# Altium schematic symbol library WE-SMGS.SchLib: 8 symbols
Pins are listed as number, name and electrical type; pins without a type are passive.

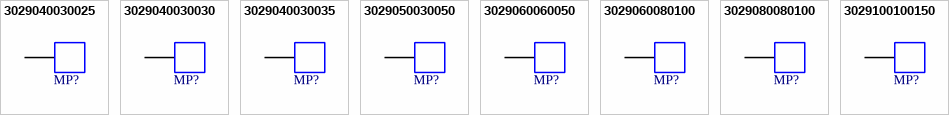
[diagram p0: symbols 3029040030025 to 3029100100150]

## 3029040030025
designator MP?  (value not drawn)
WE-SMGS Surface Mount Solderable Gasket, 4x3x2.5mm, compression height 1.875-2mm; Manufacturer: Wurth Elektronik; Recommended Compression Min: 1.875mm; Recommended Compression Max: 2mm; Shielding Effectiveness @100MHz: 70db; Surface Resistance: 0.1Ω/square; ComponentLink1Description: Website Link; ComponentLink1URL: https://www.we-online.com/redexpert/article/3029040030025?ad; ComponentLink2Description: Datasheet Link; ComponentLink2URL: https://www.we-online.com/redexpert/spec/3029040030025?ad; Manufacturer Part Number: 3029040030025; Category: EMC Shielding; Match Code: WE-SMGS; Mount: Surface Mount; Operating Temperature Max: 90°C; Operating Temperature Min: -20°C; Packaging: Tape and Reel; Length: 4mm; Width: 3mm; Height: 2.5mm
footprint 3029040030025
pins: 1

## 3029040030030
designator MP?  (value not drawn)
WE-SMGS Surface Mount Solderable Gasket, 4x3x3mm, compression height 2.25-2.4mm; Manufacturer: Wurth Elektronik; Recommended Compression Min: 2.25mm; Recommended Compression Max: 2.4mm; Shielding Effectiveness @100MHz: 70db; Surface Resistance: 0.1Ω/square; ComponentLink1Description: Website Link; ComponentLink1URL: https://www.we-online.com/redexpert/article/3029040030030?ad; ComponentLink2Description: Datasheet Link; ComponentLink2URL: https://www.we-online.com/redexpert/spec/3029040030030?ad; Manufacturer Part Number: 3029040030030; Category: EMC Shielding; Match Code: WE-SMGS; Mount: Surface Mount; Operating Temperature Max: 90°C; Operating Temperature Min: -20°C; Packaging: Tape and Reel; Length: 4mm; Width: 3mm; Height: 3mm
footprint 3029040030030
pins: 1

## 3029040030035
designator MP?  (value not drawn)
WE-SMGS Surface Mount Solderable Gasket, 4x3x3.5mm, compression height 2.625-2.8mm; Manufacturer: Wurth Elektronik; Recommended Compression Min: 2.625mm; Recommended Compression Max: 2.8mm; Shielding Effectiveness @100MHz: 70db; Surface Resistance: 0.1Ω/square; ComponentLink1Description: Website Link; ComponentLink1URL: https://www.we-online.com/redexpert/article/3029040030035?ad; ComponentLink2Description: Datasheet Link; ComponentLink2URL: https://www.we-online.com/redexpert/spec/3029040030035?ad; Manufacturer Part Number: 3029040030035; Category: EMC Shielding; Match Code: WE-SMGS; Mount: Surface Mount; Operating Temperature Max: 90°C; Operating Temperature Min: -20°C; Packaging: Tape and Reel; Length: 4mm; Width: 3mm; Height: 3.5mm
footprint 3029040030035
pins: 1

## 3029050030050
designator MP?  (value not drawn)
WE-SMGS Surface Mount Solderable Gasket, 5x3x5mm, compression height 3.75-4mm; Manufacturer: Wurth Elektronik; Recommended Compression Min: 3.75mm; Recommended Compression Max: 4mm; Shielding Effectiveness @100MHz: 70db; Surface Resistance: 0.1Ω/square; ComponentLink1Description: Website Link; ComponentLink1URL: https://www.we-online.com/redexpert/article/3029050030050?ad; ComponentLink2Description: Datasheet Link; ComponentLink2URL: https://www.we-online.com/redexpert/spec/3029050030050?ad; Manufacturer Part Number: 3029050030050; Category: EMC Shielding; Match Code: WE-SMGS; Mount: Surface Mount; Operating Temperature Max: 90°C; Operating Temperature Min: -20°C; Packaging: Tape and Reel; Length: 5mm; Width: 3mm; Height: 5mm
footprint 3029050030050
pins: 1

## 3029060060050
designator MP?  (value not drawn)
WE-SMGS Surface Mount Solderable Gasket, 6x6x5mm, compression height 3.75-4mm; Manufacturer: Wurth Elektronik; Recommended Compression Min: 3.75mm; Recommended Compression Max: 4mm; Shielding Effectiveness @100MHz: 70db; Surface Resistance: 0.1Ω/square; ComponentLink1Description: Website Link; ComponentLink1URL: https://www.we-online.com/redexpert/article/3029060060050?ad; ComponentLink2Description: Datasheet Link; ComponentLink2URL: https://www.we-online.com/redexpert/spec/3029060060050?ad; Manufacturer Part Number: 3029060060050; Category: EMC Shielding; Match Code: WE-SMGS; Mount: Surface Mount; Operating Temperature Max: 90°C; Operating Temperature Min: -20°C; Packaging: Tape and Reel; Length: 6mm; Width: 6mm; Height: 5mm
footprint 3029060060050
pins: 1

## 3029060080100
designator MP?  (value not drawn)
WE-SMGS Surface Mount Solderable Gasket, 6x8x10mm, compression height 7.5-8mm; Manufacturer: Wurth Elektronik; Recommended Compression Min: 7.5mm; Recommended Compression Max: 8mm; Shielding Effectiveness @100MHz: 70db; Surface Resistance: 0.1Ω/square; ComponentLink1Description: Website Link; ComponentLink1URL: https://www.we-online.com/redexpert/article/3029060080100?ad; ComponentLink2Description: Datasheet Link; ComponentLink2URL: https://www.we-online.com/redexpert/spec/3029060080100?ad; Manufacturer Part Number: 3029060080100; Category: EMC Shielding; Match Code: WE-SMGS; Mount: Surface Mount; Operating Temperature Max: 90°C; Operating Temperature Min: -20°C; Packaging: Tape and Reel; Length: 6mm; Width: 8mm; Height: 10mm
footprint 3029060080100
pins: 1

## 3029080080100
designator MP?  (value not drawn)
WE-SMGS Surface Mount Solderable Gasket, 8x8x10mm, compression height 7.5-8mm; Manufacturer: Wurth Elektronik; Recommended Compression Min: 7.5mm; Recommended Compression Max: 8mm; Shielding Effectiveness @100MHz: 70db; Surface Resistance: 0.1Ω/square; ComponentLink1Description: Website Link; ComponentLink1URL: https://www.we-online.com/redexpert/article/3029080080100?ad; ComponentLink2Description: Datasheet Link; ComponentLink2URL: https://www.we-online.com/redexpert/spec/3029080080100?ad; Manufacturer Part Number: 3029080080100; Category: EMC Shielding; Match Code: WE-SMGS; Mount: Surface Mount; Operating Temperature Max: 90°C; Operating Temperature Min: -20°C; Packaging: Tape and Reel; Length: 8mm; Width: 8mm; Height: 10mm
footprint 3029080080100
pins: 1

## 3029100100150
designator MP?  (value not drawn)
WE-SMGS Surface Mount Solderable Gasket, 10x10x15mm, compression height 11.25-12mm; Manufacturer: Wurth Elektronik; Recommended Compression Min: 11.25mm; Recommended Compression Max: 12mm; Shielding Effectiveness @100MHz: 70db; Surface Resistance: 0.1Ω/square; ComponentLink1Description: Website Link; ComponentLink1URL: https://www.we-online.com/redexpert/article/3029100100150?ad; ComponentLink2Description: Datasheet Link; ComponentLink2URL: https://www.we-online.com/redexpert/spec/3029100100150?ad; Manufacturer Part Number: 3029100100150; Category: EMC Shielding; Match Code: WE-SMGS; Mount: Surface Mount; Operating Temperature Max: 90°C; Operating Temperature Min: -20°C; Packaging: Tape and Reel; Length: 10mm; Width: 10mm; Height: 15mm
footprint 3029100100150
pins: 1